# Altium schematic symbol library SW_PANEL_ROCKER_DPDT.SchLib: 1 symbol
Pins are listed as number, name and electrical type; pins without a type are passive.

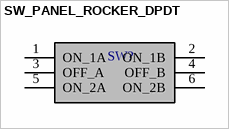
[diagram p0: symbol SW_PANEL_ROCKER_DPDT]

## SW_PANEL_ROCKER_DPDT
designator SW?, comment SWITCH ROCKER DPDT 13A 125V  (value not drawn)
Rocker Switch DPDT 13A (AC) 125 V Panel Mount, Snap-In
footprint SW_PANL2PCB_FP_24AWG (Hole Size 0.51mm, 2.54mm Pitch)
pins: 1 ON_1A, 2 ON_1B, 3 OFF_A, 4 OFF_B, 5 ON_2A, 6 ON_2B